# Altium schematic symbol library ATTINY412-SSF.SchLib: 1 symbol
Pins are listed as number, name and electrical type; pins without a type are passive.

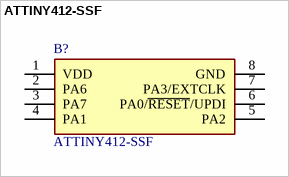
[diagram p0: symbol ATTINY412-SSF]

## ATTINY412-SSF
designator B?
8-bit Microcontrollers - MCU 20MHz, 4KB, SOIC8, Ind 125C, Green, Tube; Manufacturer_Name: Microchip; Geometry.Height: 1.75mm; Manufacturer_Part_Number: ATTINY412-SSF; Mouser Part Number: 579-ATTINY412-SSF; Mouser Price/Stock: https://www.mouser.co.uk/ProductDetail/Microchip-Technology/ATTINY412-SSF?qs=3HJ2avRr9PLjr%252BAvU6bmFQ%3D%3D; Arrow Part Number: ATTINY412-SSF; Arrow Price/Stock: https://www.arrow.com/en/products/attiny412-ssf/microchip-technology?region=nac; Datasheet Link: https://componentsearchengine.com/Datasheets/1/ATTINY412-SSF.pdf
footprint SOIC127P600X175-8N
pins: 1 VDD, 2 PA6, 3 PA7, 4 PA1, 5 PA2, 6 PA0/~{RESET}/UPDI, 7 PA3/EXTCLK, 8 GND